# Altium footprint library S2B-PH-SM4-TB.PcbLib: 1 footprints
Each footprint in its own frame and in the unit in brackets; x right, y up, seen from the top. Pads: shape width x height; smd on the part's side, far side on the other; paste and mask are expansions set on the pad; w line width, h text height; cw(c..) or ccw(c..) is an arc to the next point about the centre after c.
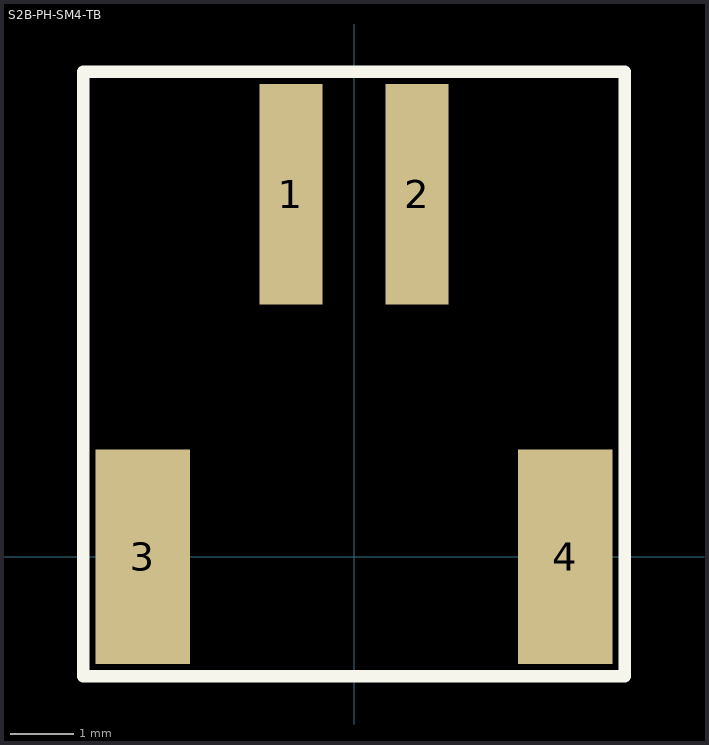
[diagram p0: the footprint, top view; thin cyan lines are the x and y axes]

## S2B-PH-SM4-TB [mm]
height 0.55
pads (4):
  rect 1x3.5 smd: 1(-1,5.75) 2(1,5.75)
  rect 1.5x3.4 smd: 3(-3.35,0) 4(3.35,0)
Top Overlay:
  lines w0.2: -4.3,-1.9 4.3,-1.9 4.3,7.7 -4.3,7.7 -4.3,-1.9
Top Assembly:
  lines w0.1: -4.3,-1.9 4.3,-1.9 4.3,7.7 -4.3,7.7 -4.3,-1.9
  text "'.Designator'" at -3.965,-0.292 h0.7
3D body "S2B-PH-SM4-TB(LF)(SN)--3DModel-STEP-56544.STEP": height 5.6, standoff 0, extent -3.95,-1.4 3.95,7.2